# Altium footprint library PWP0020D_L.PcbLib: 1 footprints
Each footprint in its own frame and in the unit in brackets; x right, y up, seen from the top. Pads: shape width x height; smd on the part's side, far side on the other; paste and mask are expansions set on the pad; w line width, h text height; cw(c..) or ccw(c..) is an arc to the next point about the centre after c.
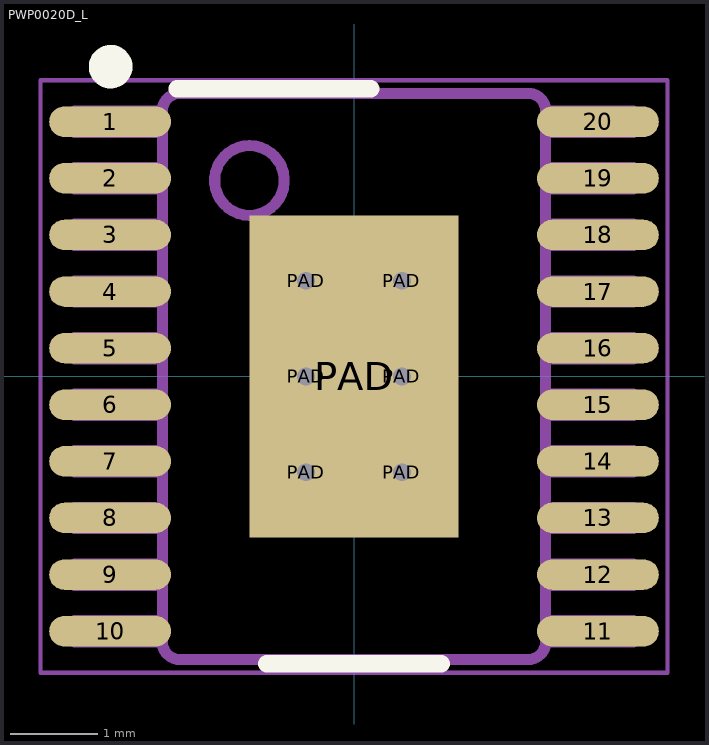
[diagram p0: the footprint, top view; thin cyan lines are the x and y axes]

## PWP0020D_L [mm]
pads (27):
  oval 1.4x0.35 smd paste+0 mask+0.051: 1(-2.8,2.925) 2(-2.8,2.275) 3(-2.8,1.625) 4(-2.8,0.975) 5(-2.8,0.325) 6(-2.8,-0.325) 7(-2.8,-0.975) 8(-2.8,-1.625) 9(-2.8,-2.275) 10(-2.8,-2.925) 11(2.8,-2.925) 12(2.8,-2.275) 13(2.8,-1.625) 14(2.8,-0.975) 15(2.8,-0.325) 16(2.8,0.325) 17(2.8,0.975) 18(2.8,1.625) 19(2.8,2.275) 20(2.8,2.925)
  round 0.5 hole 0.203 mask+0.051: PAD(-0.55,-1.1) PAD(-0.55,0) PAD(-0.55,1.1) PAD(0.55,-1.1) PAD(0.55,0) PAD(0.55,1.1)
  rect 2.4x3.7 smd paste+0 mask+0.051: PAD(0,0)
Top Overlay:
  circle w0.25: c-2.794,3.556 r0.125
  lines w0.2: -2.032,3.302 0.193,3.302 ; -1,-3.3 1,-3.3
Mechanical 13:
  drawing of 250 lines, arcs and shapes, not listed
Mechanical 15:
  lines w0.05: -3.6,-3.4 3.6,-3.4 3.6,3.4 -3.6,3.4 -3.6,-3.4
  lines w0.1: -0.5,0 0.5,0 ; 0,-0.5 0,0.5
3D body "PWP0020D.stp": height 1.13, standoff 0, extent -3.2,-3.25 3.2,3.25
3D body: height 0.25, standoff 0, extent 0,0 0.254,0.254